# Altium schematic symbol library 电源接口.SchLib: 4 symbols
Pins are listed as number, name and electrical type; pins without a type are passive.

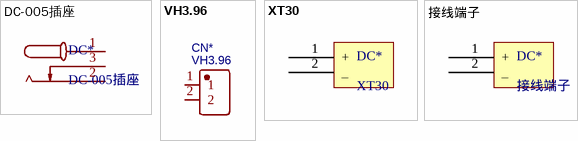
[diagram p0: symbols DC-005插座 to 接线端子]

## DC-005插座
designator DC*
footprint DC-005-5.5*2.1
pins: 1, 2, 3

## VH3.96
designator CN*
BOM_Manufacturer: CAX; BOM_Manufacturer Part: VH3.96-2AW; Contributor: LCSC; BOM_Supplier: LCSC; BOM_Supplier Part: C722831; BOM_JLCPCB Part Class: Extended Part; spicePre: C; spiceSymbolName: VH3.96-2AW_C722831
footprint VH3.96-WI-2P (接插件，25V/5A 淘宝ID:黄晶宝石   店铺网址:https://shop463601444.taobao.com)
pins: 1, 2

## XT30
designator DC*
footprint XT30-M
pins: 1 +, 2 _

## 接线端子
designator DC*
footprint 接线端子 (J-DG128-2)
pins: 1 +, 2 _